# Altium footprint library 3Delight.PcbLib: 111 footprints (part 4 of 7)
Each footprint in its own frame and in the unit in brackets; x right, y up, seen from the top. Pads: shape width x height; smd on the part's side, far side on the other; paste and mask are expansions set on the pad; w line width, h text height; cw(c..) or ccw(c..) is an arc to the next point about the centre after c.
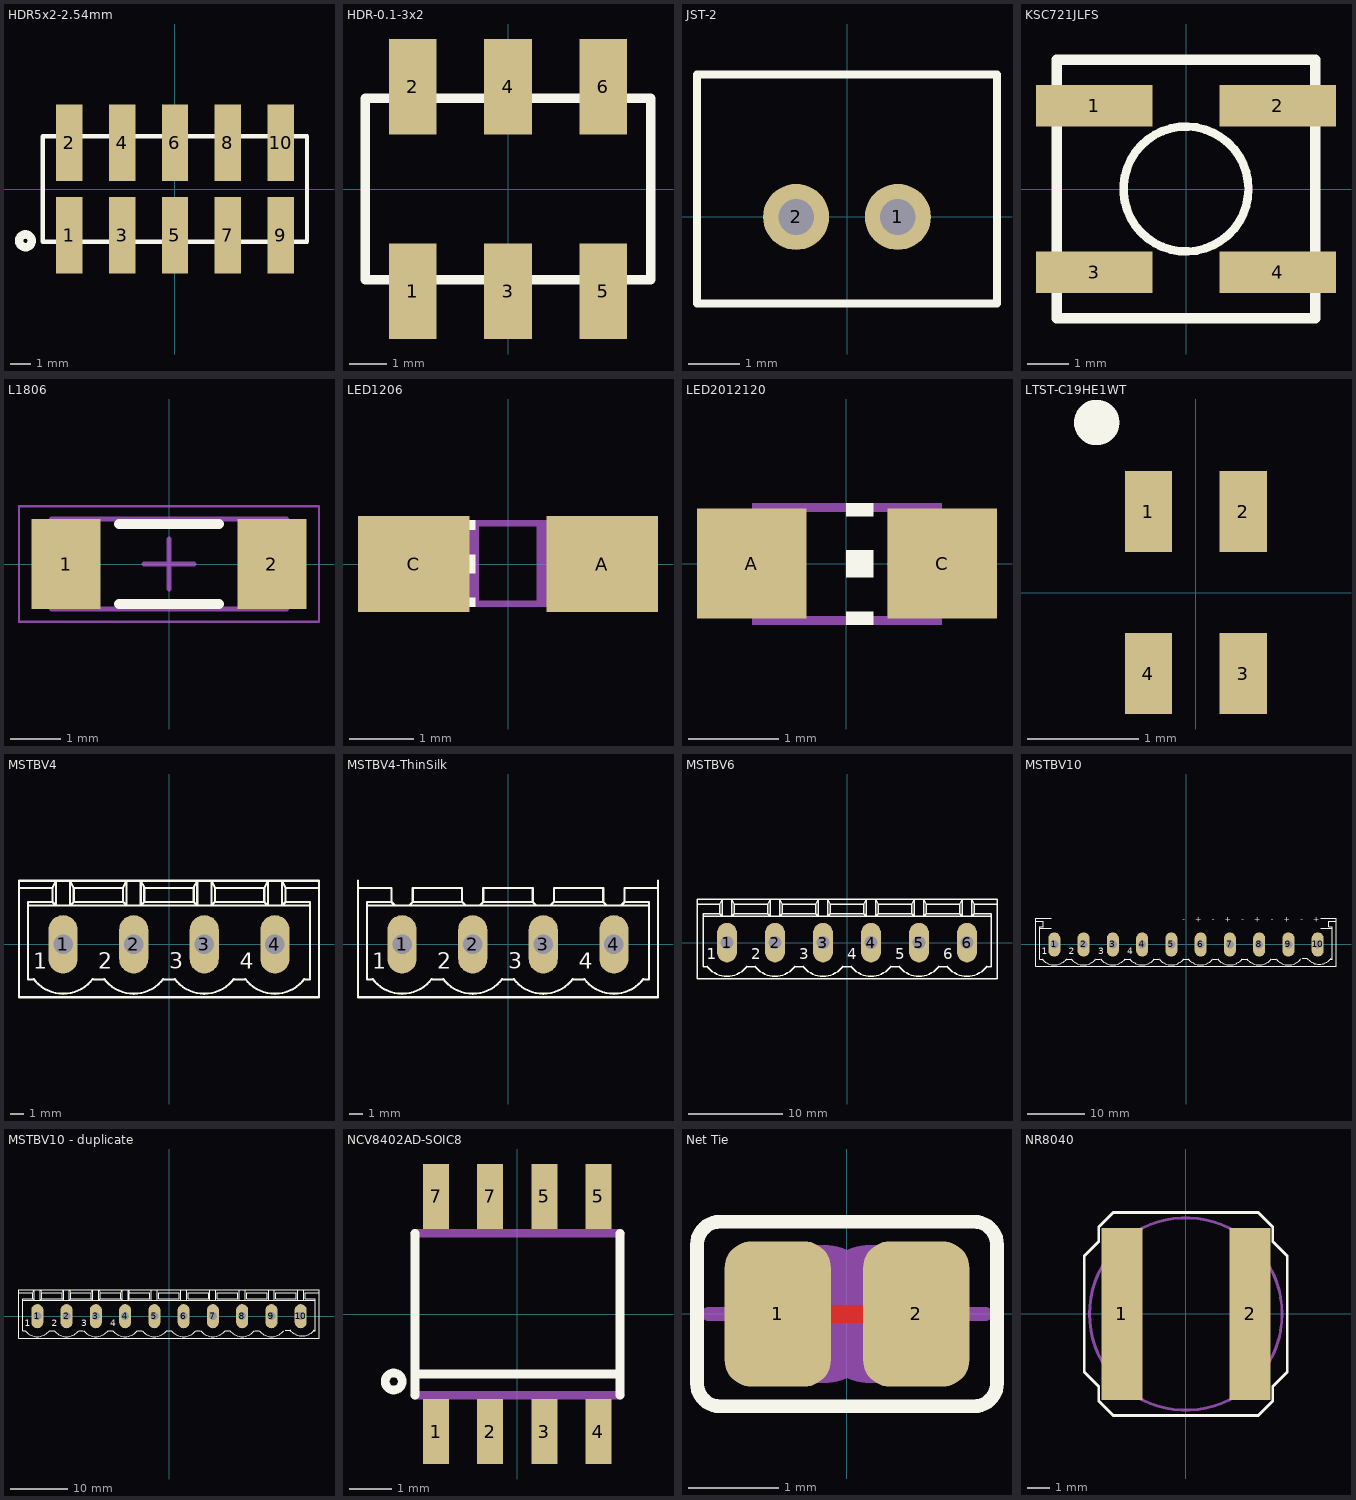
[diagram p3: the footprints below, top view; thin cyan lines are the x and y axes]

## HDR5x2-2.54mm [mil] "Header 5x2 2.54mm"
pads (10):
  rect 50x145 smd paste-75: 1(-200,-87.5) 2(-200,87.5) 3(-100,-87.5) 4(-100,87.5) 5(0,-87.5) 6(0,87.5) 7(100,-87.5) 8(100,87.5) 9(200,-87.5) 10(200,87.5)
Top Overlay:
  circle w16: c-283,-98 r12.08
  lines w8: -250,-100 250,-100 250,100 -250,100 -250,-100
3D body: height 381.89, standoff 0, extent -254,-104 254,104

## HDR-0.1-3x2 [mm] "HDR-0.1-3x2"
pads (6):
  rect 1.27x2.54 smd paste+0: 1(-2.54,-2.73) 2(-2.54,2.73) 3(0,-2.73) 4(0,2.73) 5(2.54,-2.73) 6(2.54,2.73)
Top Overlay:
  lines w0.254: -3.81,-2.415 3.81,-2.415 3.81,2.415 -3.81,2.415 -3.81,-2.415
3D body: height 9.65, standoff 0, extent -3.809,-2.414 3.809,2.414

## JST-2 [mm]
pads (2):
  round 1.3 hole 0.7 paste-99: 1(1,0) 2(-1,0)
Top Overlay:
  lines w0.152: -2.95,-1.7 2.95,-1.7 2.95,2.8 -2.95,2.8 -2.95,-1.7
3D body: height 8, standoff 0, extent -3.026,-1.776 3.026,2.876

## KSC721JLFS [mm]
pads (4):
  rect 2.8x1 smd: 1(-2.2,2) 2(2.2,2) 3(-2.2,-2) 4(2.2,-2)
Top Overlay:
  circle w0.203: c0,0 r1.5
  lines w0.254: -3.1,-3.1 -3.1,3.1 3.1,3.1 3.1,-3.1 -3.1,-3.1
3D body: height 2.9, standoff 0.1, extent -3.099,-3.099 3.099,3.099
3D body: height 4.3, standoff 2.9, extent -1.499,-1.499 1.499,1.499

## L1806 [mm] "Chip Inductor, 2-Leads, Body 4.50x1.60mm, IPC Medium Density"
height 1.8
pads (2):
  rect 1.38x1.8 smd: 1(-2.06,0) 2(2.06,0)
Top Overlay:
  lines w0.2: -1,-0.8 1,-0.8 ; -1,0.8 1,0.8
Mechanical 13:
  lines w0.1: -2.35,-0.9 -2.35,0.9 2.35,0.9 2.35,-0.9 -2.35,-0.9
Top Courtyard:
  lines w0.05: -3,-1.15 -3,1.15 3,1.15 3,-1.15 -3,-1.15
  lines w0.1: -0.5,0 0.5,0 ; 0,-0.5 0,0.5
3D body: height 1.8, standoff 0, extent -1.65,-0.9 1.65,0.9
3D body: height 1.8, standoff 0, extent -2.35,-0.9 -1.65,0.9
3D body: height 1.8, standoff 0, extent 1.65,-0.9 2.35,0.9

## LED1206 [mm]
pads (2):
  rect 1.75x1.5 smd: A(1.475,0) C(-1.475,0)
Top Overlay:
  region: -0.508,-0.675 -0.508,-0.525 -0.813,-0.525 -0.813,-0.675
  region: -0.508,0.533 -0.508,0.686 -0.813,0.686 -0.813,0.533
  region: -0.508,-0.15 -0.508,0.152 -0.813,0.152 -0.813,-0.15
Top Document:
  region: -0.457,-0.675 -0.457,0.686 -1.067,0.686 -1.067,-0.675
  region: 1.05,-0.675 1.05,0.686 0.45,0.686 0.45,-0.675
  lines w0.102: -0.457,-0.625 0.45,-0.625 ; -0.457,0.635 0.475,0.635
3D body: height 0.75, standoff 0, extent -1,-0.8 -0.508,0.8
3D body: height 0.75, standoff 0, extent -1,-0.8 1,0.8
3D body: height 0.3, standoff 0, extent -1.6,-0.8 1.6,0.8

## LED2012120 [mil]
pads (2):
  rect 48x48 smd: A(-41.34,0) C(42,0)
Top Overlay:
  region: 0,26.57 0,20.67 12,20.67 12,26.57
  region: 0,-21 0,-27 12,-27 12,-21
  region: 0,5.9 0,-6 12,-6 12,5.9
Top Document:
  region: 18,26.58 18,-27 42,-27 42,26.58
  region: -41.34,26.58 -41.34,-27 -17.72,-27 -17.72,26.57
  lines w4: -18.7,-25 18,-25 ; -17.72,24.61 18,24.61
3D body: height 15.75, standoff 0, extent 20,-10 35,10
3D body: height 27.56, standoff 0, extent -30,-25 30,25
3D body: height 11.81, standoff 0, extent -50,-25 50,25

## LTST-C19HE1WT [mm] "LED RGB DIFFUSED 0606 SMD"
pads (4):
  rect 0.425x0.725 smd: 1(-0.425,0.725) 2(0.425,0.725) 3(0.425,-0.725) 4(-0.425,-0.725)
Top Overlay:
  circle w0.254: c-0.889,1.524 r0.076
3D body: height 0.35, standoff 0, extent -0.8,-0.575 0.8,0.575
3D body: height 0.18, standoff 0, extent -0.8,-0.8 0.8,0.8

## MSTBV4 [mil]
pads (4):
  oval 82.5x165 hole 55: 1(-300,0) 2(-100,0) 3(100,0) 4(300,0)
Top Overlay:
  lines w6: -384,-98 ccw(c-300,-35) -300,-140 ccw(c-300,-35) -216,-98 ; -383,-100 -400,-100 -400,110 ; -215,-100 -185,-100 ; -184,-98 ccw(c-100,-35) -100,-140 ccw(c-100,-35) -16,-98 ; -15,-100 15,-100 ; 16,-98 ccw(c100,-35) 100,-140 ccw(c100,-35) 184,-98 ; 185,-100 215,-100 ; 216,-98 ccw(c300,-35) 300,-140 ccw(c300,-35) 384,-98 ; 383,-100 400,-100 400,110 ; -425,160 -330,160 ; -425,160 -425,-150 425,-150 425,160 ; -425,160 -425,180 -320,180 ; -400,110 -320,110 ; -400,110 -400,120 -330,120 ; -330,120 -320,110 ; -330,120 -330,160 ; -330,160 -320,180 ; -320,110 -320,180 ; -320,110 -280,110 ; -320,180 -280,180 ; -280,110 -270,120 ; -280,110 -280,180 ; -280,110 -120,110 ; -280,180 -270,160 ; -280,180 -120,180 ; -270,120 -270,160 ; -270,120 -130,120 ; -270,160 -130,160 ; -130,120 -120,110 ; -130,120 -130,160 ; -130,160 -120,180 ; -120,110 -120,180 ; -120,110 -80,110 ; -120,180 -80,180 ; -80,110 -70,120 ; -80,110 -80,180 ; -80,110 80,110 ; -80,180 -70,160 ; -80,180 80,180 ; -70,120 -70,160 ; -70,120 70,120 ; -70,160 70,160 ; 70,120 80,110 ; 70,120 70,160 ; 70,160 80,180 ; 80,110 80,180 ; 80,110 120,110 ; 80,180 120,180 ; 120,110 130,120 ; 120,110 120,180 ; 120,110 280,110 ; 120,180 130,160 ; 120,180 280,180 ; 130,120 270,120 ; 130,120 130,160 ; 130,160 270,160 ; 270,120 280,110 ; 270,120 270,160 ; 270,160 280,180 ; 280,110 280,180 ; 280,110 320,110 ; 280,180 320,180 ; 320,110 330,120 ; 320,110 320,180 ; 320,110 400,110 ; 320,180 330,160 ; 320,180 425,180 425,160 ; 330,120 330,160 ; 330,120 400,120 400,110 ; 330,160 425,160
  text "4" at 200,-85 h77.5
  text "3" at 0,-85 h77.5
  text "2" at -200,-85 h77.5
  text "1" at -385,-85 h77.5
Top Document:
  lines w6: -325,-25 -275,25 ; -325,-25 -275,-25 ; -325,-25 -325,25 ; -325,25 -275,-25 ; -325,25 -275,25 ; -275,-25 -275,25 ; -125,-25 -75,25 ; -125,-25 -125,25 ; -125,-25 -75,-25 ; -125,25 -75,-25 ; -125,25 -75,25 ; -75,-25 -75,25 ; 75,-25 125,25 ; 75,-25 125,-25 ; 75,-25 75,25 ; 75,25 125,-25 ; 75,25 125,25 ; 125,-25 125,25 ; 275,-25 325,-25 ; 275,-25 325,25 ; 275,-25 275,25 ; 275,25 325,-25 ; 275,25 325,25 ; 325,-25 325,25
3D body: height 472.44, standoff 0, extent -428,-153 428,183

## MSTBV4-ThinSilk [mil]
pads (4):
  oval 82.5x165 hole 55: 1(-300,0) 2(-100,0) 3(100,0) 4(300,0)
Top Overlay:
  lines w6: -425,180 -425,160 ; -384,-98 ccw(c-300,-35) -300,-140 ccw(c-300,-35) -216,-98 ; -383,-100 -400,-100 -400,110 ; -215,-100 -185,-100 ; -184,-98 ccw(c-100,-35) -100,-140 ccw(c-100,-35) -16,-98 ; -15,-100 15,-100 ; 16,-98 ccw(c100,-35) 100,-140 ccw(c100,-35) 184,-98 ; 185,-100 215,-100 ; 216,-98 ccw(c300,-35) 300,-140 ccw(c300,-35) 384,-98 ; 383,-100 400,-100 400,110 ; 425,180 425,160 ; -425,160 -330,160 -330,120 ; -425,160 -425,-150 425,-150 425,160 ; -400,110 -320,110 ; -400,110 -400,120 -330,120 ; -330,120 -320,110 ; -320,110 -280,110 ; -280,110 -270,120 ; -280,110 -120,110 ; -270,120 -270,160 -130,160 -130,120 ; -270,120 -130,120 ; -130,120 -120,110 ; -120,110 -80,110 ; -80,110 -70,120 ; -80,110 80,110 ; -70,120 -70,160 70,160 70,120 ; -70,120 70,120 ; 70,120 80,110 ; 80,110 120,110 ; 120,110 130,120 ; 120,110 280,110 ; 130,120 270,120 ; 130,120 130,160 270,160 270,120 ; 270,120 280,110 ; 280,110 320,110 ; 320,110 330,120 ; 320,110 400,110 ; 330,120 330,160 425,160 ; 330,120 400,120 400,110
  text "4" at 200,-85 h77.5
  text "3" at 0,-85 h77.5
  text "2" at -200,-85 h77.5
  text "1" at -385,-85 h77.5
Top Document:
  lines w6: -325,-25 -275,25 ; -325,-25 -275,-25 ; -325,-25 -325,25 ; -325,25 -275,-25 ; -325,25 -275,25 ; -275,-25 -275,25 ; -125,-25 -75,25 ; -125,-25 -125,25 ; -125,-25 -75,-25 ; -125,25 -75,-25 ; -125,25 -75,25 ; -75,-25 -75,25 ; 75,-25 125,25 ; 75,-25 125,-25 ; 75,-25 75,25 ; 75,25 125,-25 ; 75,25 125,25 ; 125,-25 125,25 ; 275,-25 325,-25 ; 275,-25 325,25 ; 275,-25 275,25 ; 275,25 325,-25 ; 275,25 325,25 ; 325,-25 325,25
3D body: height 472.44, standoff 0, extent -428,-153 428,183

## MSTBV6 [mil]
pads (6):
  oval 82.5x165 hole 55: 1(-500,0) 2(-300,0) 3(-100,0) 4(100,0) 5(300,0) 6(500,0)
Top Overlay:
  lines w6: -584,-98 ccw(c-500,-35) -500,-140 ccw(c-500,-35) -416,-98 ; -583,-100 -600,-100 -600,110 ; -415,-100 -385,-100 ; -384,-98 ccw(c-300,-35) -300,-140 ccw(c-300,-35) -216,-98 ; -215,-100 -185,-100 ; -184,-98 ccw(c-100,-35) -100,-140 ccw(c-100,-35) -16,-98 ; -15,-100 15,-100 ; 16,-98 ccw(c100,-35) 100,-140 ; 183,-100 200,-100 ; 185,-100 215,-100 ; 200,110 120,110 ; 200,120 130,120 ; 216,-98 ccw(c300,-35) 300,-140 ccw(c300,-35) 384,-98 ; 225,160 130,160 ; 225,180 120,180 ; 385,-100 415,-100 ; 416,-98 ccw(c500,-35) 500,-140 ccw(c500,-35) 584,-98 ; 583,-100 600,-100 600,110 ; -625,160 -625,180 -520,180 ; -625,160 -625,-150 625,-150 625,160 ; -625,160 -530,160 ; -600,110 -600,120 -530,120 ; -600,110 -520,110 ; -530,120 -530,160 ; -530,120 -520,110 ; -530,160 -520,180 ; -520,110 -480,110 ; -520,110 -520,180 ; -520,180 -480,180 ; -480,110 -320,110 ; -480,110 -480,180 ; -480,110 -470,120 ; -480,180 -320,180 ; -480,180 -470,160 ; -470,120 -330,120 ; -470,120 -470,160 ; -470,160 -330,160 ; -330,120 -330,160 ; -330,120 -320,110 ; -330,160 -320,180 ; -320,110 -280,110 ; -320,110 -320,180 ; -320,180 -280,180 ; -280,110 -120,110 ; -280,110 -280,180 ; -280,110 -270,120 ; -280,180 -120,180 ; -280,180 -270,160 ; -270,120 -130,120 ; -270,120 -270,160 ; -270,160 -130,160 ; -130,120 -130,160 ; -130,120 -120,110 ; -130,160 -120,180 ; -120,110 -80,110 ; -120,110 -120,180 ; -120,180 -80,180 ; -80,110 80,110 ; -80,110 -80,180 ; -80,110 -70,120 ; -80,180 80,180 ; -80,180 -70,160 ; -70,120 -70,160 ; -70,120 70,120 ; -70,160 70,160 ; 70,120 70,160 ; 70,120 80,110 ; 70,160 80,180 ; 80,110 120,110 ; 80,110 80,180 ; 80,180 120,180 ; 100,-140 ccw(c100,-35) 184,-98 cw(c100,-35) 100,-140 ; 120,110 120,180 ; 120,110 130,120 ; 120,110 130,120 ; 120,110 120,180 ; 120,110 280,110 ; 120,180 130,160 ; 120,180 130,160 ; 120,180 280,180 ; 130,120 130,160 ; 130,120 130,160 ; 130,120 270,120 ; 130,160 270,160 ; 270,120 280,110 ; 270,120 270,160 ; 270,160 280,180 ; 280,110 280,180 ; 280,110 320,110 ; 280,180 320,180 ; 320,110 330,120 ; 320,110 320,180 ; 320,110 480,110 ; 320,180 330,160 ; 320,180 480,180 ; 330,120 470,120 ; 330,120 330,160 ; 330,160 470,160 ; 470,120 480,110 ; 470,120 470,160 ; 470,160 480,180 ; 480,110 480,180 ; 480,110 520,110 ; 480,180 520,180 ; 520,110 530,120 ; 520,110 520,180 ; 520,110 600,110 ; 520,180 530,160 ; 520,180 625,180 625,160 ; 530,120 530,160 ; 530,120 600,120 600,110 ; 530,160 625,160
  text "1" at -585,-85 h77.5
  text "2" at -400,-85 h77.5
  text "3" at -200,-85 h77.5
  text "4" at 0,-85 h77.5
  text "6" at 400,-85 h77.5
  text "5" at 200,-85 h77.5
Top Document:
  lines w6: -525,-25 -525,25 ; -525,-25 -475,-25 ; -525,-25 -475,25 ; -525,25 -475,25 ; -525,25 -475,-25 ; -475,-25 -475,25 ; -325,-25 -275,-25 ; -325,-25 -325,25 ; -325,-25 -275,25 ; -325,25 -275,25 ; -325,25 -275,-25 ; -275,-25 -275,25 ; -125,-25 -125,25 ; -125,-25 -75,-25 ; -125,-25 -75,25 ; -125,25 -75,25 ; -125,25 -75,-25 ; -75,-25 -75,25 ; 75,-25 75,25 ; 75,-25 125,25 ; 75,-25 125,-25 ; 75,25 125,25 ; 75,25 125,-25 ; 125,-25 125,25 ; 125,-25 125,25 ; 275,-25 325,25 ; 275,-25 325,-25 ; 275,-25 275,25 ; 275,25 325,-25 ; 275,25 325,25 ; 325,-25 325,25 ; 475,-25 525,-25 ; 475,-25 525,25 ; 475,-25 475,25 ; 475,25 525,-25 ; 475,25 525,25 ; 525,-25 525,25
3D body: height 472.44, standoff 0, extent -628,-153 625,183

## MSTBV10 [mil]
pads (10):
  oval 82.5x165 hole 55: 1(-900,0) 2(-700,0) 3(-500,0) 4(-300,0) 5(-100,0) 6(100,0) 7(300,0) 8(500,0) 9(700,0) 10(900,0)
Top Overlay:
  lines w5.98: 920,180 1025,180
  lines w6: -984,-98 ccw(c-900,-35) -900,-140 ccw(c-900,-35) -816,-98 ; -983,-100 -1000,-100 -1000,110 ; -920,110 -1000,110 ; -920,180 -1025,180 -1025,160 ; -815,-100 -785,-100 ; -784,-98 ccw(c-700,-35) -700,-140 ccw(c-700,-35) -616,-98 ; -615,-100 -585,-100 ; -584,-98 ccw(c-500,-35) -500,-140 ccw(c-500,-35) -416,-98 ; -415,-100 -385,-100 ; -384,-98 ccw(c-300,-35) -300,-140 ccw(c-300,-35) -216,-98 ; -217,-100 -200,-100 ; -215,-100 -185,-100 ; -184,-98 ccw(c-100,-35) -100,-140 ccw(c-100,-35) -16,-98 ; -15,-100 15,-100 ; 16,-98 ccw(c100,-35) 100,-140 ccw(c100,-35) 184,-98 ; 185,-100 215,-100 ; 216,-98 ccw(c300,-35) 300,-140 ccw(c300,-35) 384,-98 ; 385,-100 415,-100 ; 416,-98 ccw(c500,-35) 500,-140 ccw(c500,-35) 584,-98 ; 585,-100 615,-100 ; 616,-98 ccw(c700,-35) 700,-140 ccw(c700,-35) 784,-98 ; 795,-95 825,-95 ; 826,-93 ccw(c910,-30) 910,-135 ccw(c910,-30) 994,-93 ; 920,110 1000,110 ; 990,-100 1000,-100 1000,110 ; 1025,180 1025,160 ; -1025,160 -976.38,160 -976.38,120 -1000,120 -1000,110 ; -1025,160 -1025,-150 -175,-150 -70,-150 1025,-150 1025,160 ; 1000,110 1000,120 976.38,120 976.38,160 1025,160
  text "4" at -400,-85 h77.5
  text "3" at -600,-85 h77.5
  text "2" at -800,-85 h77.5
  text "1" at -985,-85 h77.5
  text "+    -    +    -    +    -    +    -    +    -" at 915,185 h40
Top Document:
  lines w6: -925,-25 -875,25 ; -925,-25 -875,-25 ; -925,-25 -925,25 ; -925,25 -875,-25 ; -925,25 -875,25 ; -875,-25 -875,25 ; -725,-25 -675,25 ; -725,-25 -725,25 ; -725,-25 -675,-25 ; -725,25 -675,-25 ; -725,25 -675,25 ; -675,-25 -675,25 ; -525,-25 -475,25 ; -525,-25 -475,-25 ; -525,-25 -525,25 ; -525,25 -475,-25 ; -525,25 -475,25 ; -475,-25 -475,25 ; -325,-25 -275,-25 ; -325,-25 -275,25 ; -325,-25 -325,25 ; -325,25 -275,-25 ; -325,25 -275,25 ; -275,-25 -275,25
3D body: height 472.44, standoff 0, extent -1028,-153 1025,183

## MSTBV10 - duplicate [mil]
pads (10):
  oval 82.5x165 hole 55: 1(-900,0) 2(-700,0) 3(-500,0) 4(-300,0) 5(-100,0) 6(100,0) 7(300,0) 8(500,0) 9(700,0) 10(900,0)
Top Overlay:
  drawing of 155 lines, arcs and shapes, not listed
  text "1" at -985,-85 h77.5
  text "2" at -800,-85 h77.5
  text "3" at -600,-85 h77.5
  text "4" at -400,-85 h77.5
Top Document:
  lines w6: -925,-25 -925,25 ; -925,-25 -875,-25 ; -925,-25 -875,25 ; -925,25 -875,25 ; -925,25 -875,-25 ; -875,-25 -875,25 ; -725,-25 -675,-25 ; -725,-25 -725,25 ; -725,-25 -675,25 ; -725,25 -675,25 ; -725,25 -675,-25 ; -675,-25 -675,25 ; -525,-25 -525,25 ; -525,-25 -475,-25 ; -525,-25 -475,25 ; -525,25 -475,25 ; -525,25 -475,-25 ; -475,-25 -475,25 ; -325,-25 -325,25 ; -325,-25 -275,25 ; -325,-25 -275,-25 ; -325,25 -275,25 ; -325,25 -275,-25 ; -275,-25 -275,25
3D body: height 472.44, standoff 0, extent -1028,-153 1025,183

## NCV8402AD-SOIC8 [mil]
pads (8):
  rect 24x60 smd: 1(-75,-108.27) 2(-25,-108.27) 3(25,-108.27) 4(75,-108.27) 5(25,109) 5(75,109) 7(-75,109) 7(-25,109)
Top Overlay:
  circle w8: c-114.17,-62.01 r7.87
  lines w8: -94.49,-74.8 -94.49,-55.12 ; -94.49,75 -94.49,-55.12 ; 95,-74.8 95,-55.12 ; 95,75 95,-55.12 ; -94.49,-55.12 95,-55.12
Top Document:
  rectangle: -84.65,-122.05 -65.35,-78.74
  rectangle: -34.65,-122.05 -15.35,-78.74
  rectangle: 16,-122.05 35,-78.74
  rectangle: 66,-122.05 85,-78.74
  rectangle: 66,79 85,123
  rectangle: 16,79 35,123
  rectangle: -34.65,79 -15.35,123
  rectangle: -84.65,79 -65.35,123
  lines w8: -94.49,-74.8 95,-74.8 ; -94.49,75 95,75
3D body: height 31.5, standoff 0, extent 65,75 85,130
3D body: height 31.5, standoff 0, extent 15,75 35,130
3D body: height 31.5, standoff 0, extent -35,75 -15,130
3D body: height 31.5, standoff 0, extent -85,75 -65,130
3D body: height 31.5, standoff 0, extent 65,-130 85,-75
3D body: height 31.5, standoff 0, extent 15,-130 35,-75
3D body: height 31.5, standoff 0, extent -35,-130 -15,-75
3D body: height 31.5, standoff 0, extent -85,-130 -65,-75
3D body: height 58.27, standoff 0, extent -98.49,-78.8 99,79

## Net Tie [mil]
pads (2):
  rrect50% 46x63 smd: 1(-30,0) 2(30,0)
Top Layer:
  lines w8: -30,0 30,0
Top Overlay:
  lines w6: -65,-30 ccw(c-55,-30) -55,-40 55,-40 ccw(c55,-30) 65,-30 65,30 ccw(c55,30) 55,40 -55,40 ccw(c-55,30) -65,30 -65,-30
Top Solder:
  rectangle: -18.7,-34.45 16.73,36
Top Document:
  lines w6: -60,0 -40,0 ; 40,0 60,0
  lines w50: -10,-5 cw(c-10,0) -10,5 ; 10,-5 ccw(c10,0) 10,5
3D body: height 3.94, standoff 0, extent 6.89,-31.5 53.15,30.51
3D body: height 3.94, standoff 0, extent -53.15,-30.51 -6.89,31.5

## NR8040 [mil]
pads (2):
  rect 71x296 smd: 1(-110.24,0) 2(111,0)
Top Overlay:
  lines w5: -175,-100 -175,100 -150,125 -150,150 -125,175 125,175 150,150 150,125 175,100 175,-100 150,-125 150,-150 125,-175 -125,-175 -150,-150 -150,-125 -175,-100
Top Document:
  circle w5: c0,0 r166
3D body: height 39.37, standoff 0, extent -175.02,-175.02 175.02,175.02
3D body: height 177.17, standoff 0, extent -165.98,-165.98 165.98,165.98